# EAGLE library part IXDD604SIA (library tofu)
4-Ampere Dual Low-Side Ultrafast MOSFET Drivers - Clare, Inc.
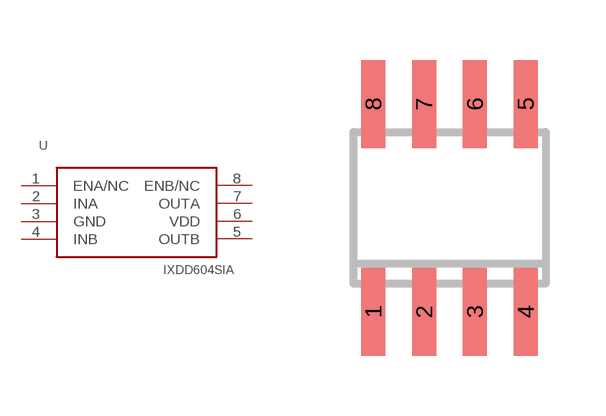
[diagram p1: symbol with the pads of SO8; footprint SO8]

Designator prefix -

## IXDD604SIA  [SO8]
1  ENA/NC
2  INA  in
3  GND  pwr
4  INB  in
5  OUTB  out
6  VDD  pwr
7  OUTA  out
8  ENB/NC

## Footprint SO8 (pad centres in mm)
8-Lead Small Outline IC (SO-8) Source: http://www.analog.com/UploadedFiles/Data_Sheets/703465986AD8611_2_0.pdf
smd 0.6 x 2.2: 1 -1.905,-2.6; 2 -0.635,-2.6; 3 0.635,-2.6; 4 1.905,-2.6; 5 1.905,2.6; 6 0.635,2.6; 7 -0.635,2.6; 8 -1.905,2.6